# Altium schematic symbol library 16PIN.SchLib: 2 symbols
Pins are listed as number, name and electrical type; pins without a type are passive.

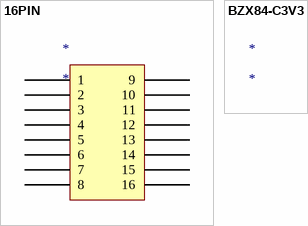
[diagram p0: symbols 16PIN to BZX84-C3V3]

## 16PIN
designator *
pins: 1, 2, 3, 4, 5, 6, 7, 8, 9, 10, 11, 12, 13, 14, 15, 16

## BZX84-C3V3
designator *
footprint LC-SOT-23(SOT-23-3)